# Altium schematic symbol library LM2595 SEMBOL.SchLib: 1 symbol
Pins are listed as number, name and electrical type; pins without a type are passive.

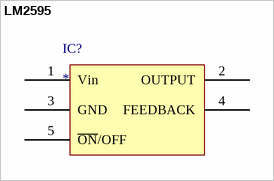
[diagram p0: symbol LM2595]

## LM2595
designator IC?
footprint LM2596 FOOTPRİNT
pins: 1 Vin, 2 OUTPUT, 3 GND, 4 FEEDBACK, 5 ~{ON}/OFF